# EAGLE library part 691317410008 (library Wurth_Elektronik_Electromechanic_Terminal_Blocks_Connectors_rev16b)
WR - TBL Serie 3174 - 7.62mm Reversed Gender Horizontal PCB Header with Flanges, 8 pins=>Code : Con_TBL_Pluggable_7.62_PCB_H_691317410008 <http://katalog.we-online.de/media/images/eican/Con_TBL_Pluggable_7.62_PCB_H_6913174100xx_pf2.jpg> Details see: http://katalog.we-online.de/en/em/691_317_410_0xx Created 2014-06-25, Karrer Zheng 2014 (C) Würth Elektronik
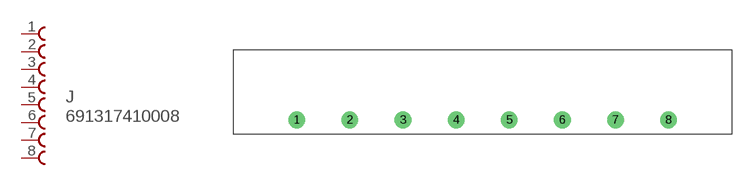
[diagram p187: symbol with the pads of 691317410008; footprint 691317410008]

Designator prefix J

## 691317410008  [691317410008]
1  1  pas
2  2  pas
3  3  pas
4  4  pas
5  5  pas
6  6  pas
7  7  pas
8  8  pas

## Footprint 691317410008 (pad centres in mm)
WR - TBL Serie 3174 - 7.62mm Reversed Gender Horizontal PCB Header with Flanges, 8 pins
drill 1.6: 1 -7.62,0; 2 0,0; 3 7.62,0; 4 15.24,0; 5 22.86,0; 6 30.48,0; 7 38.1,0; 8 45.72,0